# EAGLE library part TPS63031 (library TI Power and Battery)
Buck-Boost 3.3V Fixed output - http://www.ti.com/lit/ds/symlink/tps63030.pdf
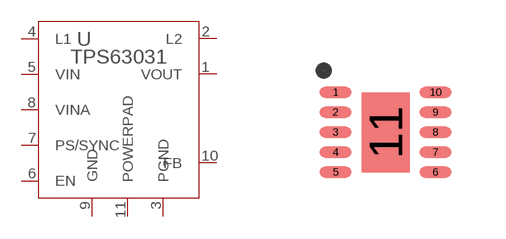
[diagram p1: symbol with the pads of QFN10-2.5MM; footprint QFN10-2.5MM]

Designator prefix -

## TPS63031  [QFN10-2.5MM]
1  VOUT  pas
2  L2  pas
3  PGND  pas
4  L1  pas
5  VIN  pas
6  EN  pas
7  PS/SYNC  pas
8  VINA  pas
9  GND  pas
10  FB  pas
11  POWERPAD  pas

## Footprint QFN10-2.5MM (pad centres in mm)
smd 0.8 x 0.28: 1 -1.25,1; 2 -1.25,0.5; 3 -1.25,0; 4 -1.25,-0.5; 5 -1.25,-1; 6 1.25,-1; 7 1.25,-0.5; 8 1.25,0; 9 1.25,0.5; 10 1.25,1
smd 1.2 x 2: 11 0,0